# Altium footprint library ic-package.PCBLIB: 75 footprints (part 3 of 5)
Each footprint in its own frame and in the unit in brackets; x right, y up, seen from the top. Pads: shape width x height; smd on the part's side, far side on the other; paste and mask are expansions set on the pad; w line width, h text height; cw(c..) or ccw(c..) is an arc to the next point about the centre after c.
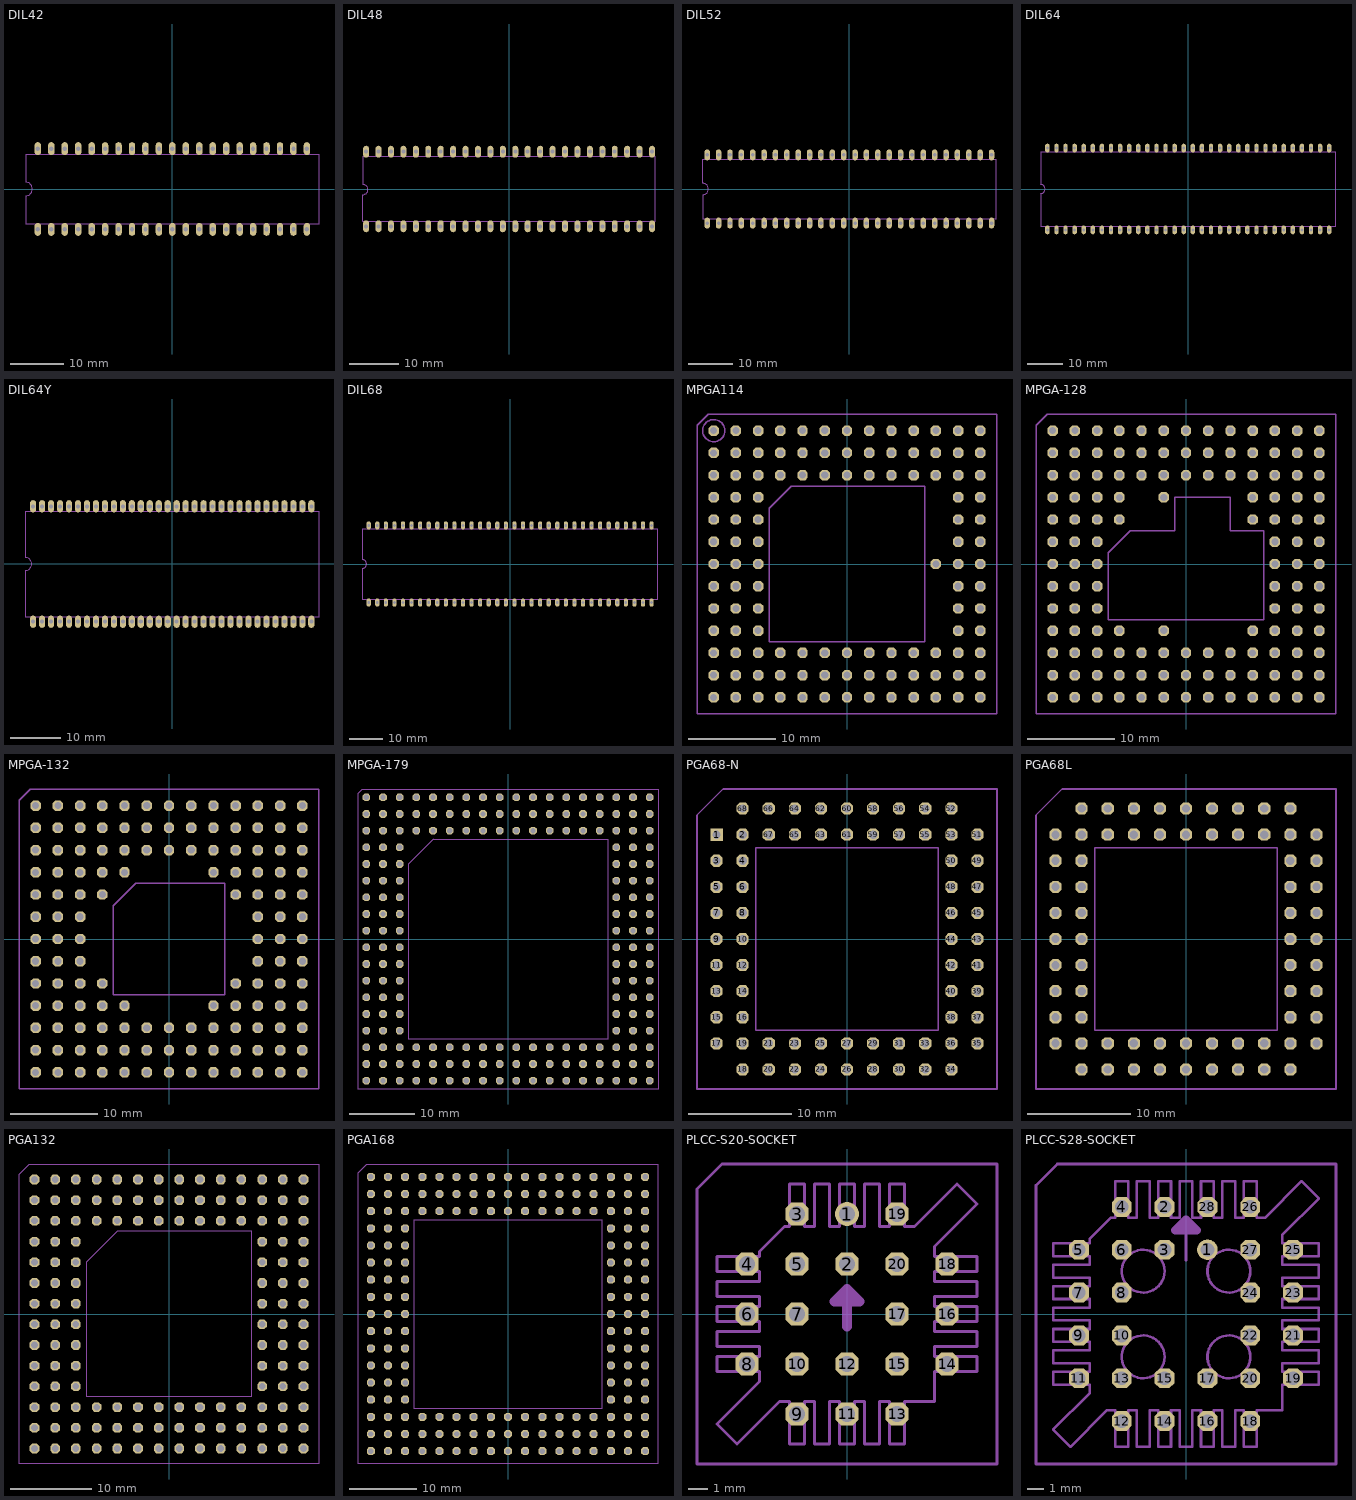
[diagram p2: the footprints below, top view; thin cyan lines are the x and y axes]

## DIL42 [mil]
pads (42):
  oval 48x96 hole 32: 1(-1000,-300) 2(-900,-300) 3(-800,-300) 4(-700,-300) 5(-600,-300) 6(-500,-300) 7(-400,-300) 8(-300,-300) 9(-200,-300) 10(-100,-300) 11(0,-300) 12(100,-300) 13(200,-300) 14(300,-300) 15(400,-300) 16(500,-300) 17(600,-300) 18(700,-300) 19(800,-300) 20(900,-300) 21(1000,-300) 22(1000,300) 23(900,300) 24(800,300) 25(700,300) 26(600,300) 27(500,300) 28(400,300) 29(300,300) 30(200,300) 31(100,300) 32(0,300) 33(-100,300) 34(-200,300) 35(-300,300) 36(-400,300) 37(-500,300) 38(-600,300) 39(-700,300) 40(-800,300) 41(-900,300) 42(-1000,300)
Mechanical 2:
  lines w6: -1090,-260 -1090,-50 ccw(c-1090,0) -1090,50 -1090,260 1090,260 1090,-260 -1090,-260

## DIL48 [mil]
pads (48):
  oval 48x96 hole 32: 1(-1150,-300) 2(-1050,-300) 3(-950,-300) 4(-850,-300) 5(-750,-300) 6(-650,-300) 7(-550,-300) 8(-450,-300) 9(-350,-300) 10(-250,-300) 11(-150,-300) 12(-50,-300) 13(50,-300) 14(150,-300) 15(250,-300) 16(350,-300) 17(450,-300) 18(550,-300) 19(650,-300) 20(750,-300) 21(850,-300) 22(950,-300) 23(1050,-300) 24(1150,-300) 25(1150,300) 26(1050,300) 27(950,300) 28(850,300) 29(750,300) 30(650,300) 31(550,300) 32(450,300) 33(350,300) 34(250,300) 35(150,300) 36(50,300) 37(-50,300) 38(-150,300) 39(-250,300) 40(-350,300) 41(-450,300) 42(-550,300) 43(-650,300) 44(-750,300) 45(-850,300) 46(-950,300) 47(-1050,300) 48(-1150,300)
Mechanical 2:
  lines w6: -1175,-260 1175,-260 1175,260 -1175,260 -1175,35 cw(c-1175,-5) -1175,-45 -1175,-260

## DIL52 [mil]
pads (52):
  oval 48x96 hole 32: 1(-1250,-300) 2(-1150,-300) 3(-1050,-300) 4(-950,-300) 5(-850,-300) 6(-750,-300) 7(-650,-300) 8(-550,-300) 9(-450,-300) 10(-350,-300) 11(-250,-300) 12(-150,-300) 13(-50,-300) 14(50,-300) 15(150,-300) 16(250,-300) 17(350,-300) 18(450,-300) 19(550,-300) 20(650,-300) 21(750,-300) 22(850,-300) 23(950,-300) 24(1050,-300) 25(1150,-300) 26(1250,-300) 27(1250,300) 28(1150,300) 29(1050,300) 30(950,300) 31(850,300) 32(750,300) 33(650,300) 34(550,300) 35(450,300) 36(350,300) 37(250,300) 38(150,300) 39(50,300) 40(-50,300) 41(-150,300) 42(-250,300) 43(-350,300) 44(-450,300) 45(-550,300) 46(-650,300) 47(-750,300) 48(-850,300) 49(-950,300) 50(-1050,300) 51(-1150,300) 52(-1250,300)
Mechanical 2:
  lines w6: -1290,-260 -1290,-50 ccw(c-1290,0) -1290,50 -1290,260 1290,260 1290,-260 -1290,-260

## DIL64 [mil]
pads (64):
  oval 48x96 hole 32: 1(-1550,-450) 2(-1450,-450) 3(-1350,-450) 4(-1250,-450) 5(-1150,-450) 6(-1050,-450) 7(-950,-450) 8(-850,-450) 9(-750,-450) 10(-650,-450) 11(-550,-450) 12(-450,-450) 13(-350,-450) 14(-250,-450) 15(-150,-450) 16(-50,-450) 17(50,-450) 18(150,-450) 19(250,-450) 20(350,-450) 21(450,-450) 22(550,-450) 23(650,-450) 24(750,-450) 25(850,-450) 26(950,-450) 27(1050,-450) 28(1150,-450) 29(1250,-450) 30(1350,-450) 31(1450,-450) 32(1550,-450) 33(1550,450) 34(1450,450) 35(1350,450) 36(1250,450) 37(1150,450) 38(1050,450) 39(950,450) 40(850,450) 41(750,450) 42(650,450) 43(550,450) 44(450,450) 45(350,450) 46(250,450) 47(150,450) 48(50,450) 49(-50,450) 50(-150,450) 51(-250,450) 52(-350,450) 53(-450,450) 54(-550,450) 55(-650,450) 56(-750,450) 57(-850,450) 58(-950,450) 59(-1050,450) 60(-1150,450) 61(-1250,450) 62(-1350,450) 63(-1450,450) 64(-1550,450)
Mechanical 2:
  lines w6: -1625,-410 -1625,-50 ccw(c-1625,0) -1625,50 -1625,410 1625,410 1625,-410 -1625,-410

## DIL64Y [mil]
pads (64):
  oval 48x96 hole 32: 1(-1085,-450) 2(-1015,-450) 3(-945,-450) 4(-875,-450) 5(-805,-450) 6(-735,-450) 7(-665,-450) 8(-595,-450) 9(-525,-450) 10(-455,-450) 11(-385,-450) 12(-315,-450) 13(-245,-450) 14(-175,-450) 15(-105,-450) 16(-35,-450) 17(35,-450) 18(105,-450) 19(175,-450) 20(245,-450) 21(315,-450) 22(385,-450) 23(455,-450) 24(525,-450) 25(595,-450) 26(665,-450) 27(735,-450) 28(805,-450) 29(875,-450) 30(945,-450) 31(1015,-450) 32(1085,-450) 33(1085,450) 34(1015,450) 35(945,450) 36(875,450) 37(805,450) 38(735,450) 39(665,450) 40(595,450) 41(525,450) 42(455,450) 43(385,450) 44(315,450) 45(245,450) 46(175,450) 47(105,450) 48(35,450) 49(-35,450) 50(-105,450) 51(-175,450) 52(-245,450) 53(-315,450) 54(-385,450) 55(-455,450) 56(-525,450) 57(-595,450) 58(-665,450) 59(-735,450) 60(-805,450) 61(-875,450) 62(-945,450) 63(-1015,450) 64(-1085,450)
Mechanical 2:
  lines w6: -1145,-410 -1145,-50 ccw(c-1145,0) -1145,50 -1145,410 1145,410 1145,-410 -1145,-410

## DIL68 [mil]
pads (68):
  oval 48x96 hole 32: 1(-1650,-450) 2(-1550,-450) 3(-1450,-450) 4(-1350,-450) 5(-1250,-450) 6(-1150,-450) 7(-1050,-450) 8(-950,-450) 9(-850,-450) 10(-750,-450) 11(-650,-450) 12(-550,-450) 13(-450,-450) 14(-350,-450) 15(-250,-450) 16(-150,-450) 17(-50,-450) 18(50,-450) 19(150,-450) 20(250,-450) 21(350,-450) 22(450,-450) 23(550,-450) 24(650,-450) 25(750,-450) 26(850,-450) 27(950,-450) 28(1050,-450) 29(1150,-450) 30(1250,-450) 31(1350,-450) 32(1450,-450) 33(1550,-450) 34(1650,-450) 35(1650,450) 36(1550,450) 37(1450,450) 38(1350,450) 39(1250,450) 40(1150,450) 41(1050,450) 42(950,450) 43(850,450) 44(750,450) 45(650,450) 46(550,450) 47(450,450) 48(350,450) 49(250,450) 50(150,450) 51(50,450) 52(-50,450) 53(-150,450) 54(-250,450) 55(-350,450) 56(-450,450) 57(-550,450) 58(-650,450) 59(-750,450) 60(-850,450) 61(-950,450) 62(-1050,450) 63(-1150,450) 64(-1250,450) 65(-1350,450) 66(-1450,450) 67(-1550,450) 68(-1650,450)
Mechanical 2:
  lines w6: -1725,-410 -1725,-50 ccw(c-1725,0) -1725,50 -1725,410 1725,410 1725,-410 -1725,-410

## MPGA114 [mil]
pads (114):
  oct 46.48x46.48 hole 32: A01(-600,600) A02(-500,600) A03(-400,600) A04(-300,600) A05(-200,600) A06(-100,600) A07(0,600) A08(100,600) A09(200,600) A10(300,600) A11(400,600) A12(500,600) A13(600,600) B01(-600,500) B02(-500,500) B03(-400,500) B04(-300,500) B05(-200,500) B06(-100,500) B07(0,500) B08(100,500) B09(200,500) B10(300,500) B11(400,500) B12(500,500) B13(600,500) C01(-600,400) C02(-500,400) C03(-400,400) C04(-300,400) C05(-200,400) C06(-100,400) C07(0,400) C08(100,400) C09(200,400) C10(300,400) C11(400,400) C12(500,400) C13(600,400) D01(-600,300) D02(-500,300) D03(-400,300) D12(500,300) D13(600,300) E01(-600,200) E02(-500,200) E03(-400,200) E12(500,200) E13(600,200) F01(-600,100) F02(-500,100) F03(-400,100) F12(500,100) F13(600,100) G01(-600,0) G02(-500,0) G03(-400,0) G11(400,0) G12(500,0) G13(600,0) H01(-600,-100) H02(-500,-100) H03(-400,-100) H12(500,-100) H13(600,-100) J01(-600,-200) J02(-500,-200) J03(-400,-200) J12(500,-200) J13(600,-200) K01(-600,-300) K02(-500,-300) K03(-400,-300) K12(500,-300) K13(600,-300) L01(-600,-400) L02(-500,-400) L03(-400,-400) L04(-300,-400) L05(-200,-400) L06(-100,-400) L07(0,-400) L08(100,-400) L09(200,-400) L10(300,-400) L11(400,-400) L12(500,-400) L13(600,-400) M01(-600,-500) M02(-500,-500) M03(-400,-500) M04(-300,-500) M05(-200,-500) M06(-100,-500) M07(0,-500) M08(100,-500) M09(200,-500) M10(300,-500) M11(400,-500) M12(500,-500) M13(600,-500) N01(-600,-600) N02(-500,-600) N03(-400,-600) N04(-300,-600) N05(-200,-600) N06(-100,-600) N07(0,-600) N08(100,-600) N09(200,-600) N10(300,-600) N11(400,-600) N12(500,-600) N13(600,-600)
Mechanical 2:
  circle w6: c-600,600 r50
  lines w6: -675,-675 675,-675 675,675 -625,675 -675,625 -675,-675 ; -350,-350 -350,250 -250,350 350,350 350,-350 -350,-350

## MPGA-128 [mil]
pads (128):
  oct 46.48x46.48 hole 32: A01(-600,600) A02(-500,600) A03(-400,600) A04(-300,600) A05(-200,600) A06(-100,600) A07(0,600) A08(100,600) A09(200,600) A10(300,600) A11(400,600) A12(500,600) A13(600,600) B01(-600,500) B02(-500,500) B03(-400,500) B04(-300,500) B05(-200,500) B06(-100,500) B07(0,500) B08(100,500) B09(200,500) B10(300,500) B11(400,500) B12(500,500) B13(600,500) C01(-600,400) C02(-500,400) C03(-400,400) C04(-300,400) C05(-200,400) C06(-100,400) C07(0,400) C08(100,400) C09(200,400) C10(300,400) C11(400,400) C12(500,400) C13(600,400) D01(-600,300) D02(-500,300) D03(-400,300) D04(-300,300) D06(-100,300) D10(300,300) D11(400,300) D12(500,300) D13(600,300) E01(-600,200) E02(-500,200) E03(-400,200) E04(-300,200) E10(300,200) E11(400,200) E12(500,200) E13(600,200) F01(-600,100) F02(-500,100) F03(-400,100) F11(400,100) F12(500,100) F13(600,100) G01(-600,0) G02(-500,0) G03(-400,0) G11(400,0) G12(500,0) G13(600,0) H01(-600,-100) H02(-500,-100) H03(-400,-100) H11(400,-100) H12(500,-100) H13(600,-100) J01(-600,-200) J02(-500,-200) J03(-400,-200) J11(400,-200) J12(500,-200) J13(600,-200) K01(-600,-300) K02(-500,-300) K03(-400,-300) K04(-300,-300) K06(-100,-300) K10(300,-300) K11(400,-300) K12(500,-300) K13(600,-300) L01(-600,-400) L02(-500,-400) L03(-400,-400) L04(-300,-400) L05(-200,-400) L06(-100,-400) L07(0,-400) L08(100,-400) L09(200,-400) L10(300,-400) L11(400,-400) L12(500,-400) L13(600,-400) M01(-600,-500) M02(-500,-500) M03(-400,-500) M04(-300,-500) M05(-200,-500) M06(-100,-500) M07(0,-500) M08(100,-500) M09(200,-500) M10(300,-500) M11(400,-500) M12(500,-500) M13(600,-500) N01(-600,-600) N02(-500,-600) N03(-400,-600) N04(-300,-600) N05(-200,-600) N06(-100,-600) N07(0,-600) N08(100,-600) N09(200,-600) N10(300,-600) N11(400,-600) N12(500,-600) N13(600,-600)
Mechanical 2:
  lines w6: -675,-675 675,-675 675,675 -625,675 -675,625 -675,-675 ; -350,-250 350,-250 350,150 200,150 200,300 -50,300 -50,150 -250,150 -350,50 -350,-250

## MPGA-132 [mil]
pads (132):
  oct 46.48x46.48 hole 32: A01(-600,600) A02(-500,600) A03(-400,600) A04(-300,600) A05(-200,600) A06(-100,600) A07(0,600) A08(100,600) A09(200,600) A10(300,600) A11(400,600) A12(500,600) A13(600,600) B01(-600,500) B02(-500,500) B03(-400,500) B04(-300,500) B05(-200,500) B06(-100,500) B07(0,500) B08(100,500) B09(200,500) B10(300,500) B11(400,500) B12(500,500) B13(600,500) C01(-600,400) C02(-500,400) C03(-400,400) C04(-300,400) C05(-200,400) C06(-100,400) C07(0,400) C08(100,400) C09(200,400) C10(300,400) C11(400,400) C12(500,400) C13(600,400) D01(-600,300) D02(-500,300) D03(-400,300) D04(-300,300) D05(-200,300) D09(200,300) D10(300,300) D11(400,300) D12(500,300) D13(600,300) E01(-600,200) E02(-500,200) E03(-400,200) E04(-300,200) E10(300,200) E11(400,200) E12(500,200) E13(600,200) F01(-600,100) F02(-500,100) F03(-400,100) F11(400,100) F12(500,100) F13(600,100) G01(-600,0) G02(-500,0) G03(-400,0) G11(400,0) G12(500,0) G13(600,0) H01(-600,-100) H02(-500,-100) H03(-400,-100) H11(400,-100) H12(500,-100) H13(600,-100) J01(-600,-200) J02(-500,-200) J03(-400,-200) J04(-300,-200) J10(300,-200) J11(400,-200) J12(500,-200) J13(600,-200) K01(-600,-300) K02(-500,-300) K03(-400,-300) K04(-300,-300) K05(-200,-300) K09(200,-300) K10(300,-300) K11(400,-300) K12(500,-300) K13(600,-300) L01(-600,-400) L02(-500,-400) L03(-400,-400) L04(-300,-400) L05(-200,-400) L06(-100,-400) L07(0,-400) L08(100,-400) L09(200,-400) L10(300,-400) L11(400,-400) L12(500,-400) L13(600,-400) M01(-600,-500) M02(-500,-500) M03(-400,-500) M04(-300,-500) M05(-200,-500) M06(-100,-500) M07(0,-500) M08(100,-500) M09(200,-500) M10(300,-500) M11(400,-500) M12(500,-500) M13(600,-500) N01(-600,-600) N02(-500,-600) N03(-400,-600) N04(-300,-600) N05(-200,-600) N06(-100,-600) N07(0,-600) N08(100,-600) N09(200,-600) N10(300,-600) N11(400,-600) N12(500,-600) N13(600,-600)
Mechanical 2:
  lines w6: -675,-675 675,-675 675,675 -625,675 -675,625 -675,-675 ; -250,-250 -250,150 -150,250 250,250 250,-250 -250,-250

## MPGA-179 [mil]
pads (180):
  oct 46.48x46.48 hole 32: A01(-850,850) A02(-750,850) A03(-650,850) A04(-550,850) A05(-450,850) A06(-350,850) A07(-250,850) A08(-150,850) A09(-50,850) A10(50,850) A11(150,850) A12(250,850) A13(350,850) A14(450,850) A15(550,850) A16(650,850) A17(750,850) A18(850,850) B01(-850,750) B02(-750,750) B03(-650,750) B04(-550,750) B05(-450,750) B06(-350,750) B07(-250,750) B08(-150,750) B09(-50,750) B10(50,750) B11(150,750) B12(250,750) B13(350,750) B14(450,750) B15(550,750) B16(650,750) B17(750,750) B18(850,750) C01(-850,650) C02(-750,650) C03(-650,650) C04(-550,650) C05(-450,650) C06(-350,650) C07(-250,650) C08(-150,650) C09(-50,650) C10(50,650) C11(150,650) C12(250,650) C13(350,650) C14(450,650) C15(550,650) C16(650,650) C17(750,650) C18(850,650) D01(-850,550) D02(-750,550) D03(-650,550) D16(650,550) D17(750,550) D18(850,550) E01(-850,450) E02(-750,450) E03(-650,450) E16(650,450) E17(750,450) E18(850,450) F01(-850,350) F02(-750,350) F03(-650,350) F16(650,350) F17(750,350) F18(850,350) G01(-850,250) G02(-750,250) G03(-650,250) G16(650,250) G17(750,250) G18(850,250) H01(-850,150) H02(-750,150) H03(-650,150) H16(650,150) H17(750,150) H18(850,150) J01(-850,50) J02(-750,50) J03(-650,50) J16(650,50) J17(750,50) J18(850,50) K01(-850,-50) K02(-750,-50) K03(-650,-50) K16(650,-50) K17(750,-50) K18(850,-50) L01(-850,-150) L02(-750,-150) L03(-650,-150) L16(650,-150) L17(750,-150) L18(850,-150) M01(-850,-250) M02(-750,-250) M03(-650,-250) M16(650,-250) M17(750,-250) M18(850,-250) N01(-850,-350) N02(-750,-350) N03(-650,-350) N16(650,-350) N17(750,-350) N18(850,-350) P01(-850,-450) P02(-750,-450) P03(-650,-450) P16(650,-450) P17(750,-450) P18(850,-450) Q01(-850,-550) Q02(-750,-550) Q03(-650,-550) Q16(650,-550) Q17(750,-550) Q18(850,-550) R01(-850,-650) R02(-750,-650) R03(-650,-650) R04(-550,-650) R05(-450,-650) R06(-350,-650) R07(-250,-650) R08(-150,-650) R09(-50,-650) R10(50,-650) R11(150,-650) R12(250,-650) R13(350,-650) R14(450,-650) R15(550,-650) R16(650,-650) R17(750,-650) R18(850,-650) S01(-850,-750) S02(-750,-750) S03(-650,-750) S04(-550,-750) S05(-450,-750) S06(-350,-750) S07(-250,-750) S08(-150,-750) S09(-50,-750) S10(50,-750) S11(150,-750) S12(250,-750) S13(350,-750) S14(450,-750) S15(550,-750) S16(650,-750) S17(750,-750) S18(850,-750) T01(-850,-850) T02(-750,-850) T03(-650,-850) T04(-550,-850) T05(-450,-850) T06(-350,-850) T07(-250,-850) T08(-150,-850) T09(-50,-850) T10(50,-850) T11(150,-850) T12(250,-850) T13(350,-850) T14(450,-850) T15(550,-850) T16(650,-850) T17(750,-850) T18(850,-850)
Mechanical 2:
  lines w6: -900,-900 900,-900 900,900 -875,900 -900,875 -900,-900 ; -600,-600 600,-600 600,600 -450,600 -600,450 -600,-600

## PGA68-N [mil]
pads (68):
  rect 48x48 hole 32: 1(-500,400)
  oct 46.48x46.48 hole 32: 2(-400,400) 3(-500,300) 4(-400,300) 5(-500,200) 6(-400,200) 7(-500,100) 8(-400,100) 9(-500,0) 10(-400,0) 11(-500,-100) 12(-400,-100) 13(-500,-200) 14(-400,-200) 15(-500,-300) 16(-400,-300) 17(-500,-400) 18(-400,-500) 19(-400,-400) 20(-300,-500) 21(-300,-400) 22(-200,-500) 23(-200,-400) 24(-100,-500) 25(-100,-400) 26(0,-500) 27(0,-400) 28(100,-500) 29(100,-400) 30(200,-500) 31(200,-400) 32(300,-500) 33(300,-400) 34(400,-500) 35(500,-400) 36(400,-400) 37(500,-300) 38(400,-300) 39(500,-200) 40(400,-200) 41(500,-100) 42(400,-100) 43(500,0) 44(400,0) 45(500,100) 46(400,100) 47(500,200) 48(400,200) 49(500,300) 50(400,300) 51(500,400) 52(400,500) 53(400,400) 54(300,500) 55(300,400) 56(200,500) 57(200,400) 58(100,500) 59(100,400) 60(0,500) 61(0,400) 62(-100,500) 63(-100,400) 64(-200,500) 65(-200,400) 66(-300,500) 67(-300,400) 68(-400,500)
Mechanical 2:
  lines w6: -575,-575 575,-575 575,575 -475,575 -575,475 -575,-575 ; -350,-350 -350,350 350,350 350,-350 -350,-350

## PGA68L [mil]
pads (68):
  oct 46.48x46.48 hole 32: A02(-400,500) A03(-300,500) A04(-200,500) A05(-100,500) A06(0,500) A07(100,500) A08(200,500) A09(300,500) A10(400,500) B01(-500,400) B02(-400,400) B03(-300,400) B04(-200,400) B05(-100,400) B06(0,400) B07(100,400) B08(200,400) B09(300,400) B10(400,400) B11(500,400) C01(-500,300) C02(-400,300) C10(400,300) C11(500,300) D01(-500,200) D02(-400,200) D10(400,200) D11(500,200) E01(-500,100) E02(-400,100) E10(400,100) E11(500,100) F01(-500,0) F02(-400,0) F10(400,0) F11(500,0) G01(-500,-100) G02(-400,-100) G10(400,-100) G11(500,-100) H01(-500,-200) H02(-400,-200) H10(400,-200) H11(500,-200) J01(-500,-300) J02(-400,-300) J10(400,-300) J11(500,-300) K01(-500,-400) K02(-400,-400) K03(-300,-400) K04(-200,-400) K05(-100,-400) K06(0,-400) K07(100,-400) K08(200,-400) K09(300,-400) K10(400,-400) K11(500,-400) L02(-400,-500) L03(-300,-500) L04(-200,-500) L05(-100,-500) L06(0,-500) L07(100,-500) L08(200,-500) L09(300,-500) L10(400,-500)
Mechanical 2:
  lines w6: -575,-575 575,-575 575,575 -475,575 -575,475 -575,-575 ; -350,-350 350,-350 350,350 -350,350 -350,-350

## PGA132 [mil]
pads (132):
  oct 46.48x46.48 hole 32: A01(-650,650) A02(-550,650) A03(-450,650) A04(-350,650) A05(-250,650) A06(-150,650) A07(-50,650) A08(50,650) A09(150,650) A10(250,650) A11(350,650) A12(450,650) A13(550,650) A14(650,650) B01(-650,550) B02(-550,550) B03(-450,550) B04(-350,550) B05(-250,550) B06(-150,550) B07(-50,550) B08(50,550) B09(150,550) B10(250,550) B11(350,550) B12(450,550) B13(550,550) B14(650,550) C01(-650,450) C02(-550,450) C03(-450,450) C04(-350,450) C05(-250,450) C06(-150,450) C07(-50,450) C08(50,450) C09(150,450) C10(250,450) C11(350,450) C12(450,450) C13(550,450) C14(650,450) D01(-650,350) D02(-550,350) D03(-450,350) D12(450,350) D13(550,350) D14(650,350) E01(-650,250) E02(-550,250) E03(-450,250) E12(450,250) E13(550,250) E14(650,250) F01(-650,150) F02(-550,150) F03(-450,150) F12(450,150) F13(550,150) F14(650,150) G01(-650,50) G02(-550,50) G03(-450,50) G12(450,50) G13(550,50) G14(650,50) H01(-650,-50) H02(-550,-50) H03(-450,-50) H12(450,-50) H13(550,-50) H14(650,-50) J01(-650,-150) J02(-550,-150) J03(-450,-150) J12(450,-150) J13(550,-150) J14(650,-150) K01(-650,-250) K02(-550,-250) K03(-450,-250) K12(450,-250) K13(550,-250) K14(650,-250) L01(-650,-350) L02(-550,-350) L03(-450,-350) L12(450,-350) L13(550,-350) L14(650,-350) M01(-650,-450) M02(-550,-450) M03(-450,-450) M04(-350,-450) M05(-250,-450) M06(-150,-450) M07(-50,-450) M08(50,-450) M09(150,-450) M10(250,-450) M11(350,-450) M12(450,-450) M13(550,-450) M14(650,-450) N01(-650,-550) N02(-550,-550) N03(-450,-550) N04(-350,-550) N05(-250,-550) N06(-150,-550) N07(-50,-550) N08(50,-550) N09(150,-550) N10(250,-550) N11(350,-550) N12(450,-550) N13(550,-550) N14(650,-550) P01(-650,-650) P02(-550,-650) P03(-450,-650) P04(-350,-650) P05(-250,-650) P06(-150,-650) P07(-50,-650) P08(50,-650) P09(150,-650) P10(250,-650) P11(350,-650) P12(450,-650) P13(550,-650) P14(650,-650)
Mechanical 2:
  lines w6: -725,-725 725,-725 725,725 -675,725 -725,675 -725,-725 ; -400,-400 400,-400 400,400 -250,400 -400,250 -400,-400

## PGA168 [mil]
pads (168):
  oct 46.48x46.48 hole 32: A01(-800,800) A02(-700,800) A03(-600,800) A04(-500,800) A05(-400,800) A06(-300,800) A07(-200,800) A08(-100,800) A09(0,800) A10(100,800) A11(200,800) A12(300,800) A13(400,800) A14(500,800) A15(600,800) A16(700,800) A17(800,800) B01(-800,700) B02(-700,700) B03(-600,700) B04(-500,700) B05(-400,700) B06(-300,700) B07(-200,700) B08(-100,700) B09(0,700) B10(100,700) B11(200,700) B12(300,700) B13(400,700) B14(500,700) B15(600,700) B16(700,700) B17(800,700) C01(-800,600) C02(-700,600) C03(-600,600) C04(-500,600) C05(-400,600) C06(-300,600) C07(-200,600) C08(-100,600) C09(0,600) C10(100,600) C11(200,600) C12(300,600) C13(400,600) C14(500,600) C15(600,600) C16(700,600) C17(800,600) D01(-800,500) D02(-700,500) D03(-600,500) D15(600,500) D16(700,500) D17(800,500) E01(-800,400) E02(-700,400) E03(-600,400) E15(600,400) E16(700,400) E17(800,400) F01(-800,300) F02(-700,300) F03(-600,300) F15(600,300) F16(700,300) F17(800,300) G01(-800,200) G02(-700,200) G03(-600,200) G15(600,200) G16(700,200) G17(800,200) H01(-800,100) H02(-700,100) H03(-600,100) H15(600,100) H16(700,100) H17(800,100) J01(-800,0) J02(-700,0) J03(-600,0) J15(600,0) J16(700,0) J17(800,0) K01(-800,-100) K02(-700,-100) K03(-600,-100) K15(600,-100) K16(700,-100) K17(800,-100) L01(-800,-200) L02(-700,-200) L03(-600,-200) L15(600,-200) L16(700,-200) L17(800,-200) M01(-800,-300) M02(-700,-300) M03(-600,-300) M15(600,-300) M16(700,-300) M17(800,-300) N01(-800,-400) N02(-700,-400) N03(-600,-400) N15(600,-400) N16(700,-400) N17(800,-400) P01(-800,-500) P02(-700,-500) P03(-600,-500) P15(600,-500) P16(700,-500) P17(800,-500) Q01(-800,-600) Q02(-700,-600) Q03(-600,-600) Q04(-500,-600) Q05(-400,-600) Q06(-300,-600) Q07(-200,-600) Q08(-100,-600) Q09(0,-600) Q10(100,-600) Q11(200,-600) Q12(300,-600) Q13(400,-600) Q14(500,-600) Q15(600,-600) Q16(700,-600) Q17(800,-600) R01(-800,-700) R02(-700,-700) R03(-600,-700) R04(-500,-700) R05(-400,-700) R06(-300,-700) R07(-200,-700) R08(-100,-700) R09(0,-700) R10(100,-700) R11(200,-700) R12(300,-700) R13(400,-700) R14(500,-700) R15(600,-700) R16(700,-700) R17(800,-700) S01(-800,-800) S02(-700,-800) S03(-600,-800) S04(-500,-800) S05(-400,-800) S06(-300,-800) S07(-200,-800) S08(-100,-800) S09(0,-800) S10(100,-800) S11(200,-800) S12(300,-800) S13(400,-800) S14(500,-800) S15(600,-800) S16(700,-800) S17(800,-800)
Mechanical 2:
  lines w6: -875,-875 875,-875 875,875 -825,875 -875,825 -875,-875 ; -550,-550 550,-550 550,550 -550,550 -550,-550

## PLCC-S20-SOCKET [mil]
pads (20):
  round 48 hole 32: 1(0,200)
  oct 46.48x46.48 hole 32: 2(0,100) 3(-100,200) 4(-200,100) 5(-100,100) 6(-200,0) 7(-100,0) 8(-200,-100) 9(-100,-200) 10(-100,-100) 11(0,-200) 12(0,-100) 13(100,-200) 14(200,-100) 15(100,-100) 16(200,0) 17(100,0) 18(200,100) 19(100,200) 20(100,100)
Mechanical 2:
  lines w6: -175,-135 -260,-220 -220,-260 -135,-175 ; -175,-65 -260,-65 -260,-35 -175,-35 ; -175,35 -260,35 -260,65 -175,65 ; -175,125 -125,175 ; -65,-175 -65,-260 -35,-260 -35,-175 ; -65,175 -65,260 -35,260 -35,175 ; 35,-175 35,-260 65,-260 65,-175 ; 35,175 35,260 65,260 65,175 ; 115,-175 175,-175 175,-115 ; 135,175 220,260 260,220 175,135 ; 175,-65 260,-65 260,-35 175,-35 ; 175,35 260,35 260,65 175,65 ; -300,-300 -300,250 -250,300 300,300 300,-300 -300,-300
  lines w20: 0,-25 0,50 ; 0,50 25,25 -25,25 0,50
Mechanical 18:
  lines w6: -175,-135 -175,-115 -260,-115 -260,-85 -175,-85 -175,-65 ; -175,-35 -175,-15 -260,-15 -260,15 -175,15 -175,35 ; -175,65 -175,85 -260,85 -260,115 -175,115 -175,125 ; -135,-175 -115,-175 -115,-260 -85,-260 -85,-175 -65,-175 ; -125,175 -115,175 -115,260 -85,260 -85,175 -65,175 ; -35,-175 -15,-175 -15,-260 15,-260 15,-175 35,-175 ; -35,175 -15,175 -15,260 15,260 15,175 35,175 ; 65,-175 85,-175 85,-260 115,-260 115,-175 ; 65,175 85,175 85,260 115,260 115,175 135,175 ; 175,-115 260,-115 260,-85 175,-85 175,-65 ; 175,-35 175,-15 260,-15 260,15 175,15 175,35 ; 175,65 175,85 260,85 260,115 175,115 175,135

## PLCC-S28-SOCKET [mil]
pads (28):
  round 48 hole 32: 1(50,150)
  oct 46.48x46.48 hole 32: 2(-50,250) 3(-50,150) 4(-150,250) 5(-250,150) 6(-150,150) 7(-250,50) 8(-150,50) 9(-250,-50) 10(-150,-50) 11(-250,-150) 12(-150,-250) 13(-150,-150) 14(-50,-250) 15(-50,-150) 16(50,-250) 17(50,-150) 18(150,-250) 19(250,-150) 20(150,-150) 21(250,-50) 22(150,-50) 23(250,50) 24(150,50) 25(250,150) 26(150,250) 27(150,150) 28(50,250)
Mechanical 2:
  lines w6: -225,-185 -310,-270 -270,-310 -185,-225 ; -225,-115 -310,-115 -310,-85 -225,-85 ; -225,-15 -310,-15 -310,15 -225,15 ; -225,85 -310,85 -310,115 -225,115 ; -225,175 -175,225 ; -115,-225 -115,-310 -85,-310 -85,-225 ; -115,225 -115,310 -85,310 -85,225 ; -15,-225 -15,-310 15,-310 15,-225 ; -15,225 -15,310 15,310 15,225 ; 0,125 0,220 ; 85,-225 85,-310 115,-310 115,-225 ; 85,225 85,310 115,310 115,225 ; 165,-225 225,-225 225,-165 ; 185,225 270,310 310,270 225,185 ; 225,-115 310,-115 310,-85 225,-85 ; 225,-15 310,-15 310,15 225,15 ; 225,85 310,85 310,115 225,115 ; -350,-350 -350,300 -300,350 350,350 350,-350 -350,-350
  lines w20: -25,195 25,195 0,220 -25,195
Mechanical 18:
  circle w6: c-100,100 r50
  circle w6: c100,100 r50
  circle w6: c-100,-100 r50
  circle w6: c100,-100 r50
  lines w6: -225,-185 -225,-165 -310,-165 -310,-135 -225,-135 -225,-115 ; -225,-85 -225,-65 -310,-65 -310,-35 -225,-35 -225,-15 ; -225,15 -225,35 -310,35 -310,65 -225,65 -225,85 ; -225,115 -225,135 -310,135 -310,165 -225,165 -225,175 ; -185,-225 -165,-225 -165,-310 -135,-310 -135,-225 -115,-225 ; -175,225 -165,225 -165,310 -135,310 -135,225 -115,225 ; -85,-225 -65,-225 -65,-310 -35,-310 -35,-225 -15,-225 ; -85,225 -65,225 -65,310 -35,310 -35,225 -15,225 ; 15,-225 35,-225 35,-310 65,-310 65,-225 85,-225 ; 15,225 35,225 35,310 65,310 65,225 85,225 ; 115,-225 135,-225 135,-310 165,-310 165,-225 ; 115,225 135,225 135,310 165,310 165,225 185,225 ; 225,-165 310,-165 310,-135 225,-135 225,-115 ; 225,-85 225,-65 310,-65 310,-35 225,-35 225,-15 ; 225,15 225,35 310,35 310,65 225,65 225,85 ; 225,115 225,135 310,135 310,165 225,165 225,185